# Altium schematic symbol library LTC1983ES6-5.Schlib: 1 symbol
Pins are listed as number, name and electrical type; pins without a type are passive.

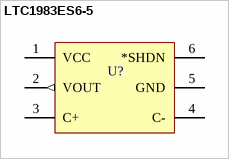
[diagram p0: symbol LTC1983ES6-5]

## LTC1983ES6-5
designator U?
-5V Voltage converter
pins: 1 VCC (power), 2 VOUT (out), 3 C+, 4 C-, 5 GND (power), 6 *SHDN